# Altium integrated library Renesas Power Management Linear.IntLib: 125 symbols (part 3 of 4)
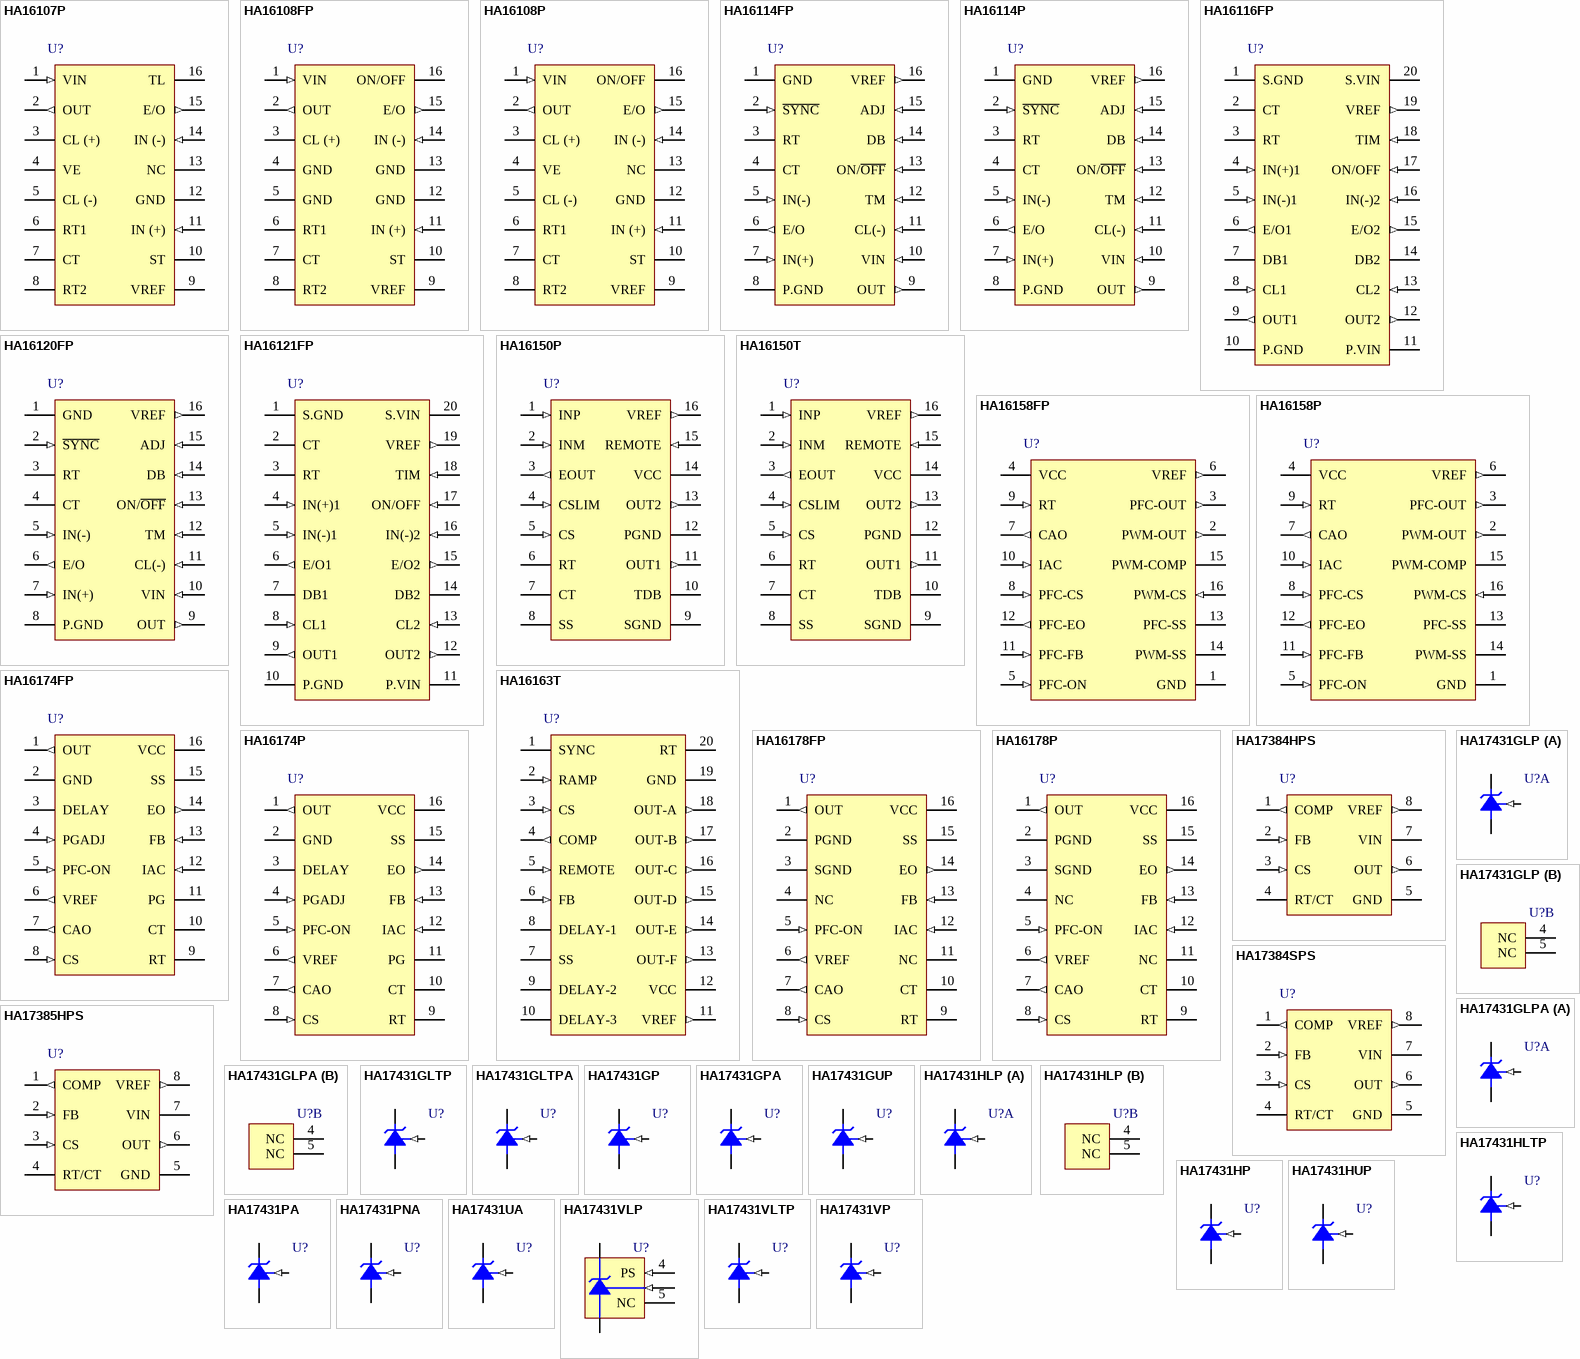
[diagram p5: symbols HA16107P to HA17431VP]

## HA17431VLP
designator U?
Temperature-Compensated Variable Shunt Regulator, Vref (2.5V ± 1%), VKA (16V), MPAK-5 Package, Industrial Grade; Published: 5-Feb-2010; DatasheetVersion: Rev.3.00, Apr-2007; PackageVersion: Jan-2005; PackageReference: PLSP0005ZB-A; Publisher: Altium Limited; PackageDescription: 5-Lead Plastic Small Outline Transistor, 0.95 mm Pitch, 2.8 mm Lead Span; Code_JEITA: SC-74A; Code_IPC: SOT23-5; ComponentLink1Description: Manufacturer Link; ComponentLink1URL: http://sg.renesas.com/fmwk.jsp?cnt=shunt_regulators_root.jsp&fp=/products/standard_ic/general_purpose_linear/power_management_linear/shunt_regulators/; ComponentLink2Description: Datasheet; ComponentLink2URL: http://documentation.renesas.com/eng/products/linear/rej03d0678_ha17431.pdf; ComponentLink3Description: Packaging Specification; ComponentLink3URL: http://sg.renesas.com/media/products/common_info/package/pdf/ic/code/plsp0005zb_a.pdf
footprint PLSP0005ZB-A_N (SOT23, 5-Leads, Body 2.95x1.6mm, Pitch 0.95mm, Lead Span 2.7mm, IPC Medium Density)
footprint PLSP0005ZB-A_L (SOT23, 5-Leads, Body 2.95x1.6mm, Pitch 0.95mm, Lead Span 2.7mm, IPC High Density)
footprint PLSP0005ZB-A_M (SOT23, 5-Leads, Body 2.95x1.6mm, Pitch 0.95mm, Lead Span 2.7mm, IPC Low Density)
pins: 1 REF (in), 2 K, 3 A, 4 PS (in), 5 NC

## HA17431VLTP
designator U?
Temperature-Compensated Variable Shunt Regulator, Vref (2.5V ± 1%), VKA (16V), MPAK Package, Industrial Grade; Published: 5-Feb-2010; DatasheetVersion: Rev.3.00, Apr-2007; PackageVersion: Sep-2005; PackageReference: MPAKV; Publisher: Altium Limited; PackageDescription: 3-Pin Plastic SOT-23 Package 0.95 mm Pitch, 2.8 mm Lead Span (PLSP0003ZB-A); Code_JEITA: SC-59A; ComponentLink1Description: Manufacturer Link; ComponentLink1URL: http://sg.renesas.com/fmwk.jsp?cnt=shunt_regulators_root.jsp&fp=/products/standard_ic/general_purpose_linear/power_management_linear/shunt_regulators/; ComponentLink2Description: Datasheet; ComponentLink2URL: http://documentation.renesas.com/eng/products/linear/rej03d0678_ha17431.pdf; ComponentLink3Description: Packaging Specification; ComponentLink3URL: http://sg.renesas.com/media/products/common_info/package/pdf/ic/code/plsp0003zb_a.pdf
footprint MPAKV_N (SOT346, 3-Leads, Body 2.9x1.5mm, Pitch 0.95mm, Lead Span 2.8mm, IPC Medium Density)
footprint MPAKV_L (SOT346, 3-Leads, Body 2.9x1.5mm, Pitch 0.95mm, Lead Span 2.8mm, IPC High Density)
footprint MPAKV_M (SOT346, 3-Leads, Body 2.9x1.5mm, Pitch 0.95mm, Lead Span 2.8mm, IPC Low Density)
pins: 1 REF (in), 2 K, 3 A

## HA17431VP
designator U?
Temperature-Compensated Variable Shunt Regulator, Vref (2.5V ± 1%), VKA (16V), TO-92 Package, Industrial Grade; Published: 5-Feb-2010; DatasheetVersion: Rev.3.00, Apr-2007; PackageVersion: Jan-2005; PackageReference: PRSS0003DA-A; Publisher: Altium Limited; PackageDescription: TO, Flat Index; 3 In-Line, Axial Leads; Body Dia. 4.8mm; Leads 0.55 x 0.5 mm (max); Code_JEITA: SC-43A; ComponentLink1Description: Manufacturer Link; ComponentLink1URL: http://sg.renesas.com/fmwk.jsp?cnt=shunt_regulators_root.jsp&fp=/products/standard_ic/general_purpose_linear/power_management_linear/shunt_regulators/; ComponentLink2Description: Datasheet; ComponentLink2URL: http://documentation.renesas.com/eng/products/linear/rej03d0678_ha17431.pdf; ComponentLink3Description: Packaging Specification; ComponentLink3URL: http://sg.renesas.com/media/products/common_info/package/pdf/ic/code/prss0003da_a.pdf
footprint PRSS0003DA-A (TO, Flat Index; 3 In-Line, Axial Leads; Body Dia. 4.8mm; Leads 0.55 x 0.5 mm (max))
pins: 1 REF (in), 2 A, 3 K

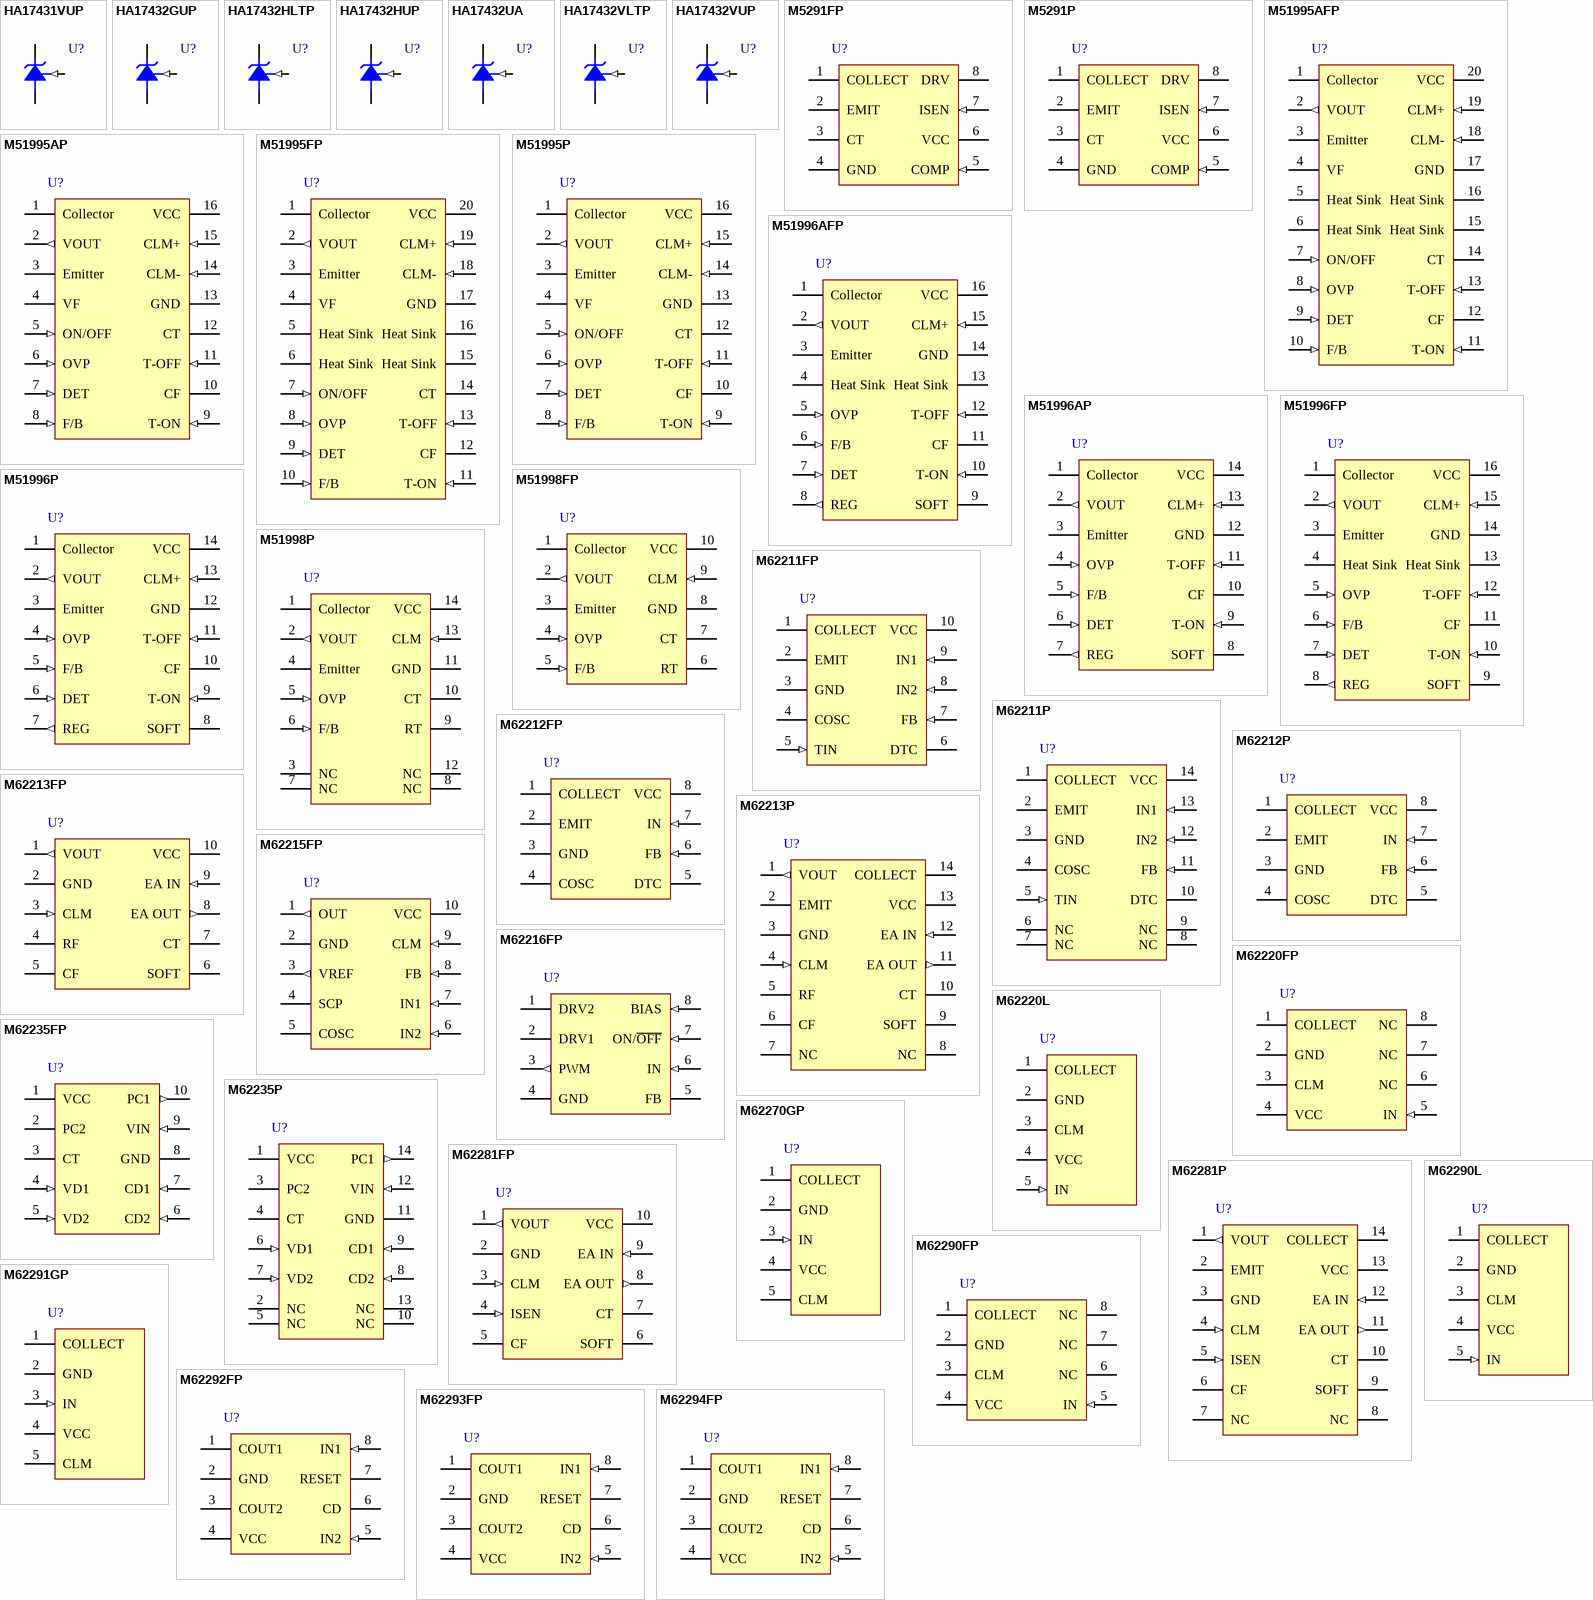
[diagram p2: symbols HA17431VUP to M62294FP]

## HA17431VUP
designator U?
Temperature-Compensated Variable Shunt Regulator, Vref (2.5V ± 1%), VKA (16V), UPAK Package, Industrial Grade; Published: 5-Feb-2010; DatasheetVersion: Rev.3.00, Apr-2007; PackageVersion: Jan-2005; PackageReference: PLZZ0004CA-A; Publisher: Altium Limited; PackageDescription: 3-Pin Plastic SOT-89 Package 1.5 mm Pitch, 4 mm Lead Span; Code_JEITA: SC-62; Code_IPC: SOT89; ComponentLink1Description: Manufacturer Link; ComponentLink1URL: http://sg.renesas.com/fmwk.jsp?cnt=shunt_regulators_root.jsp&fp=/products/standard_ic/general_purpose_linear/power_management_linear/shunt_regulators/; ComponentLink2Description: Datasheet; ComponentLink2URL: http://documentation.renesas.com/eng/products/linear/rej03d0678_ha17431.pdf; ComponentLink3Description: Packaging Specification; ComponentLink3URL: http://sg.renesas.com/media/products/common_info/package/pdf/ic/code/plzz0004ca_a.pdf
footprint PLZZ0004CA-A_N (SOT89, 3-Leads, Body 4.5x2.5 mm, Pitch 1.5mm, Lead Span 4mm, IPC Medium Density)
footprint PLZZ0004CA-A_L (SOT89, 3-Leads, Body 4.5x2.5 mm, Pitch 1.5mm, Lead Span 4mm, IPC High Density)
footprint PLZZ0004CA-A_M (SOT89, 3-Leads, Body 4.5x2.5 mm, Pitch 1.5mm, Lead Span 4mm, IPC Low Density)
pins: 1 REF (in), 2 A, 3 K

## HA17432GUP
designator U?
Temperature-Compensated Variable Shunt Regulator, Vref (2.5V ± 1%), VKA (40V), UPAK Package, Industrial Grade; Published: 5-Feb-2010; DatasheetVersion: Rev.1.00, Mar-2006; PackageVersion: Jan-2005; PackageReference: PLZZ0004CA-A; Publisher: Altium Limited; PackageDescription: 3-Pin Plastic SOT-89 Package 1.5 mm Pitch, 4 mm Lead Span; Code_JEITA: SC-62; Code_IPC: SOT89; ComponentLink1Description: Manufacturer Link; ComponentLink1URL: http://sg.renesas.com/fmwk.jsp?cnt=shunt_regulators_root.jsp&fp=/products/standard_ic/general_purpose_linear/power_management_linear/shunt_regulators/; ComponentLink2Description: Datasheet; ComponentLink2URL: http://documentation.renesas.com/eng/products/linear/rej03d0805_ha17431gds.pdf; ComponentLink3Description: Packaging Specification; ComponentLink3URL: http://sg.renesas.com/media/products/common_info/package/pdf/ic/code/plzz0004ca_a.pdf
footprint PLZZ0004CA-A_N (SOT89, 3-Leads, Body 4.5x2.5 mm, Pitch 1.5mm, Lead Span 4mm, IPC Medium Density)
footprint PLZZ0004CA-A_L (SOT89, 3-Leads, Body 4.5x2.5 mm, Pitch 1.5mm, Lead Span 4mm, IPC High Density)
footprint PLZZ0004CA-A_M (SOT89, 3-Leads, Body 4.5x2.5 mm, Pitch 1.5mm, Lead Span 4mm, IPC Low Density)
pins: 1 K, 2 A, 3 REF (in)

## HA17432HLTP
designator U?
Temperature-Compensated Variable Shunt Regulator, Vref (2.5V ± 1%), VKA (36V), MPAK Package, Industrial Grade; Published: 5-Feb-2010; DatasheetVersion: Rev.2.00, Jun-2005; PackageVersion: Sep-2005; PackageReference: MPAKV; Publisher: Altium Limited; PackageDescription: 3-Pin Plastic SOT-23 Package 0.95 mm Pitch, 2.8 mm Lead Span (PLSP0003ZB-A); Code_JEITA: SC-59A; ComponentLink1Description: Manufacturer Link; ComponentLink1URL: http://sg.renesas.com/fmwk.jsp?cnt=shunt_regulators_root.jsp&fp=/products/standard_ic/general_purpose_linear/power_management_linear/shunt_regulators/; ComponentLink2Description: Datasheet; ComponentLink2URL: http://documentation.renesas.com/eng/products/linear/rej03d0679_ha17431h.pdf; ComponentLink3Description: Packaging Specification; ComponentLink3URL: http://sg.renesas.com/media/products/common_info/package/pdf/ic/code/plsp0003zb_a.pdf
footprint MPAKV_N (SOT346, 3-Leads, Body 2.9x1.5mm, Pitch 0.95mm, Lead Span 2.8mm, IPC Medium Density)
footprint MPAKV_L (SOT346, 3-Leads, Body 2.9x1.5mm, Pitch 0.95mm, Lead Span 2.8mm, IPC High Density)
footprint MPAKV_M (SOT346, 3-Leads, Body 2.9x1.5mm, Pitch 0.95mm, Lead Span 2.8mm, IPC Low Density)
pins: 1 K, 2 REF (in), 3 A

## HA17432HUP
designator U?
Temperature-Compensated Variable Shunt Regulator, Vref (2.5V ± 1%), VKA (36V), UPAK Package, Industrial Grade; Published: 5-Feb-2010; DatasheetVersion: Rev.2.00, Jun-2005; PackageVersion: Jan-2005; PackageReference: PLZZ0004CA-A; Publisher: Altium Limited; PackageDescription: 3-Pin Plastic SOT-89 Package 1.5 mm Pitch, 4 mm Lead Span; Code_JEITA: SC-62; Code_IPC: SOT89; ComponentLink1Description: Manufacturer Link; ComponentLink1URL: http://sg.renesas.com/fmwk.jsp?cnt=shunt_regulators_root.jsp&fp=/products/standard_ic/general_purpose_linear/power_management_linear/shunt_regulators/; ComponentLink2Description: Datasheet; ComponentLink2URL: http://documentation.renesas.com/eng/products/linear/rej03d0679_ha17431h.pdf; ComponentLink3Description: Packaging Specification; ComponentLink3URL: http://sg.renesas.com/media/products/common_info/package/pdf/ic/code/plzz0004ca_a.pdf
footprint PLZZ0004CA-A_N (SOT89, 3-Leads, Body 4.5x2.5 mm, Pitch 1.5mm, Lead Span 4mm, IPC Medium Density)
footprint PLZZ0004CA-A_L (SOT89, 3-Leads, Body 4.5x2.5 mm, Pitch 1.5mm, Lead Span 4mm, IPC High Density)
footprint PLZZ0004CA-A_M (SOT89, 3-Leads, Body 4.5x2.5 mm, Pitch 1.5mm, Lead Span 4mm, IPC Low Density)
pins: 1 K, 2 A, 3 REF (in)

## HA17432UA
designator U?
Temperature-Compensated Variable Shunt Regulator, Vref (2.495V ± 2.2%), VKA (40V), UPAK Package, Commercial Grade; Published: 5-Feb-2010; DatasheetVersion: Rev.3.00, Apr-2007; PackageVersion: Jan-2005; PackageReference: PLZZ0004CA-A; Publisher: Altium Limited; PackageDescription: 3-Pin Plastic SOT-89 Package 1.5 mm Pitch, 4 mm Lead Span; Code_JEITA: SC-62; Code_IPC: SOT89; ComponentLink1Description: Manufacturer Link; ComponentLink1URL: http://sg.renesas.com/fmwk.jsp?cnt=shunt_regulators_root.jsp&fp=/products/standard_ic/general_purpose_linear/power_management_linear/shunt_regulators/; ComponentLink2Description: Datasheet; ComponentLink2URL: http://documentation.renesas.com/eng/products/linear/rej03d0678_ha17431.pdf; ComponentLink3Description: Packaging Specification; ComponentLink3URL: http://sg.renesas.com/media/products/common_info/package/pdf/ic/code/plzz0004ca_a.pdf
footprint PLZZ0004CA-A_N (SOT89, 3-Leads, Body 4.5x2.5 mm, Pitch 1.5mm, Lead Span 4mm, IPC Medium Density)
footprint PLZZ0004CA-A_L (SOT89, 3-Leads, Body 4.5x2.5 mm, Pitch 1.5mm, Lead Span 4mm, IPC High Density)
footprint PLZZ0004CA-A_M (SOT89, 3-Leads, Body 4.5x2.5 mm, Pitch 1.5mm, Lead Span 4mm, IPC Low Density)
pins: 1 K, 2 A, 3 REF (in)

## HA17432VLTP
designator U?
Temperature-Compensated Variable Shunt Regulator, Vref (2.5V ± 1%), VKA (16V), MPAK Package, Industrial Grade; Published: 5-Feb-2010; DatasheetVersion: Rev.3.00, Apr-2007; PackageVersion: Sep-2005; PackageReference: MPAKV; Publisher: Altium Limited; PackageDescription: 3-Pin Plastic SOT-23 Package 0.95 mm Pitch, 2.8 mm Lead Span (PLSP0003ZB-A); Code_JEITA: SC-59A; ComponentLink1Description: Manufacturer Link; ComponentLink1URL: http://sg.renesas.com/fmwk.jsp?cnt=shunt_regulators_root.jsp&fp=/products/standard_ic/general_purpose_linear/power_management_linear/shunt_regulators/; ComponentLink2Description: Datasheet; ComponentLink2URL: http://documentation.renesas.com/eng/products/linear/rej03d0678_ha17431.pdf; ComponentLink3Description: Packaging Specification; ComponentLink3URL: http://sg.renesas.com/media/products/common_info/package/pdf/ic/code/plsp0003zb_a.pdf
footprint MPAKV_N (SOT346, 3-Leads, Body 2.9x1.5mm, Pitch 0.95mm, Lead Span 2.8mm, IPC Medium Density)
footprint MPAKV_L (SOT346, 3-Leads, Body 2.9x1.5mm, Pitch 0.95mm, Lead Span 2.8mm, IPC High Density)
footprint MPAKV_M (SOT346, 3-Leads, Body 2.9x1.5mm, Pitch 0.95mm, Lead Span 2.8mm, IPC Low Density)
pins: 1 K, 2 REF (in), 3 A

## HA17432VUP
designator U?
Temperature-Compensated Variable Shunt Regulator, Vref (2.5V ± 1%), VKA (16V), UPAK Package, Industrial Grade; Published: 5-Feb-2010; DatasheetVersion: Rev.3.00, Apr-2007; PackageVersion: Jan-2005; PackageReference: PLZZ0004CA-A; Publisher: Altium Limited; PackageDescription: 3-Pin Plastic SOT-89 Package 1.5 mm Pitch, 4 mm Lead Span; Code_JEITA: SC-62; Code_IPC: SOT89; ComponentLink1Description: Manufacturer Link; ComponentLink1URL: http://sg.renesas.com/fmwk.jsp?cnt=shunt_regulators_root.jsp&fp=/products/standard_ic/general_purpose_linear/power_management_linear/shunt_regulators/; ComponentLink2Description: Datasheet; ComponentLink2URL: http://documentation.renesas.com/eng/products/linear/rej03d0678_ha17431.pdf; ComponentLink3Description: Packaging Specification; ComponentLink3URL: http://sg.renesas.com/media/products/common_info/package/pdf/ic/code/plzz0004ca_a.pdf
footprint PLZZ0004CA-A_N (SOT89, 3-Leads, Body 4.5x2.5 mm, Pitch 1.5mm, Lead Span 4mm, IPC Medium Density)
footprint PLZZ0004CA-A_L (SOT89, 3-Leads, Body 4.5x2.5 mm, Pitch 1.5mm, Lead Span 4mm, IPC High Density)
footprint PLZZ0004CA-A_M (SOT89, 3-Leads, Body 4.5x2.5 mm, Pitch 1.5mm, Lead Span 4mm, IPC Low Density)
pins: 1 K, 2 A, 3 REF (in)

## M5291FP
designator U?
Switching Regulator Control, DC/DC Converter, 100kHz, Vin (2.5 to 40V), 8-pin SOP; Published: 5-Feb-2010; DatasheetVersion: Rev.2.01, Nov-2007; PackageVersion: Sep-2005; PackageReference: PRSP0008DA-A; Publisher: Altium Limited; PackageDescription: 8-Pin Plastic Small Outline Package, 5.0 x 4.4 mm Body, 1.27 mm Pitch; Code_JEITA: P-SOP8-4.4x5-1.27; ComponentLink1Description: Manufacturer Link; ComponentLink1URL: http://sg.renesas.com/fmwk.jsp?cnt=dcdc_converter_root.jsp&fp=/products/standard_ic/general_purpose_linear/power_management_linear/dcdc_converter/; ComponentLink2Description: Datasheet; ComponentLink2URL: http://documentation.renesas.com/eng/products/linear/rej03d0841_m5291pds.pdf; ComponentLink3Description: Packaging Specification; ComponentLink3URL: http://sg.renesas.com/media/products/common_info/package/pdf/ic/code/prsp0008da_a.pdf
footprint PRSP0008DA-A_N (SOP, 8-Leads, Body 5x4.4mm, Pitch 1.27mm, IPC Medium Density)
footprint PRSP0008DA-A_L (SOP, 8-Leads, Body 5x4.4mm, Pitch 1.27mm, IPC High Density)
footprint PRSP0008DA-A_M (SOP, 8-Leads, Body 5x4.4mm, Pitch 1.27mm, IPC Low Density)
pins: 1 COLLECT "Switch Collector", 2 EMIT "Switch Emitter", 3 CT "Timing Capacitor", 4 GND (power) "Ground", 5 COMP (in) "Comparator Input", 6 VCC (power) "Vcc", 7 ISEN (in) "Peak Current Sense", 8 DRV "Driver"

## M5291P
designator U?
Switching Regulator Control, DC/DC Converter, 100kHz, Vin (2.5 to 40V), 8-pin DIP; Published: 5-Feb-2010; DatasheetVersion: Rev.2.01, Nov-2007; PackageVersion: Sep-2005; PackageReference: PRDP0008AA-A; Publisher: Altium Limited; PackageDescription: 8-Pin Plastic DIP, 8.9 x 6.3 mm Body, 7.62 mm Row Spacing, Pitch 2.54 mm; Code_JEITA: P-DIP8-6.3x8.84-2.54; ComponentLink1Description: Manufacturer Link; ComponentLink1URL: http://sg.renesas.com/fmwk.jsp?cnt=dcdc_converter_root.jsp&fp=/products/standard_ic/general_purpose_linear/power_management_linear/dcdc_converter/; ComponentLink2Description: Datasheet; ComponentLink2URL: http://documentation.renesas.com/eng/products/linear/rej03d0841_m5291pds.pdf; ComponentLink3Description: Packaging Specification; ComponentLink3URL: http://sg.renesas.com/media/products/common_info/package/pdf/ic/code/prdp0008aa_a.pdf
footprint PRDP0008AA-A (DIP, 8-Leads, Row Spacing 7.62mm, Pitch 2.54mm, Body 8.9x6.3mm)
pins: 1 COLLECT "Switch Collector", 2 EMIT "Switch Emitter", 3 CT "Timing Capacitor", 4 GND (power) "Ground", 5 COMP (in) "Comparator Input", 6 VCC (power) "Vcc", 7 ISEN (in) "Peak Current Sense", 8 DRV "Driver"

## M51995AFP
designator U?
Switching Regulator Control, 500kHz, Vin (10 to 35V), 20-pin SOP; Published: 5-Feb-2010; DatasheetVersion: Rev.3.00, Jun-2008; PackageVersion: Sep-2005; PackageReference: PRSP0020DA-A; Publisher: Altium Limited; PackageDescription: 20-Pin Plastic Small Outline Package, 12.6 x 5.3 x 1.8 mm Body, 1.27 mm Pitch; Code_JEITA: P-SOP20-5.3x12.6-1.27; ComponentLink1Description: Manufacturer Link; ComponentLink1URL: http://sg.renesas.com/fmwk.jsp?cnt=insulated_swps_root.jsp&fp=/products/standard_ic/general_purpose_linear/power_management_linear/insulated_sw_powersupply/; ComponentLink2Description: Datasheet; ComponentLink2URL: http://documentation.renesas.com/eng/products/linear/rej03d0835_m51995apds.pdf; ComponentLink3Description: Packaging Specification; ComponentLink3URL: http://sg.renesas.com/media/products/common_info/package/pdf/ic/code/prsp0020da_a.pdf
footprint PRSP0020DA-A_N (SOP, 20-Leads, Body 12.6x5.3mm, Pitch 1.27mm, IPC Medium Density)
footprint PRSP0020DA-A_L (SOP, 20-Leads, Body 12.6x5.3mm, Pitch 1.27mm, IPC High Density)
footprint PRSP0020DA-A_M (SOP, 20-Leads, Body 12.6x5.3mm, Pitch 1.27mm, IPC Low Density)
pins: 1 Collector, 2 VOUT (out), 3 Emitter, 4 VF, 5 Heat Sink (power), 6 Heat Sink (power), 7 ON/OFF (in), 8 OVP (in), 9 DET (in), 10 F/B (in), 11 T-ON (in), 12 CF, 13 T-OFF (in), 14 CT, 15 Heat Sink (power), 16 Heat Sink (power), 17 GND (power), 18 CLM- (in), 19 CLM+ (in), 20 VCC (power)

## M51995AP
designator U?
Switching Regulator Control, 500kHz, Vin (10 to 35V), 16-pin DIP; Published: 5-Feb-2010; DatasheetVersion: Rev.3.00, Jun-2008; PackageVersion: Sep-2005; PackageReference: PRDP0016AA-A; Publisher: Altium Limited; PackageDescription: 16-Pin Plastic DIP, 19 x 6.3 mm Body, 7.62 mm Row Spacing, Pitch 2.54 mm; Code_JEITA: P-DIP16-6.3x19-2.54; ComponentLink1Description: Manufacturer Link; ComponentLink1URL: http://sg.renesas.com/fmwk.jsp?cnt=insulated_swps_root.jsp&fp=/products/standard_ic/general_purpose_linear/power_management_linear/insulated_sw_powersupply/; ComponentLink2Description: Datasheet; ComponentLink2URL: http://documentation.renesas.com/eng/products/linear/rej03d0835_m51995apds.pdf; ComponentLink3Description: Packaging Specification; ComponentLink3URL: http://sg.renesas.com/media/products/common_info/package/pdf/ic/code/prdp0016aa_a.pdf
footprint PRDP0016AA-A (DIP, 16-Leads, Row Spacing 7.62mm, Pitch 2.54mm, Body 19x6.3mm)
pins: 1 Collector, 2 VOUT (out), 3 Emitter, 4 VF, 5 ON/OFF (in), 6 OVP (in), 7 DET (in), 8 F/B (in), 9 T-ON (in), 10 CF, 11 T-OFF (in), 12 CT, 13 GND (power), 14 CLM- (in), 15 CLM+ (in), 16 VCC (power)

## M51995FP
designator U?
Switching Regulator Control, 500kHz, Vin (10 to 35V), 20-pin SOP; Published: 5-Feb-2010; DatasheetVersion: Rev.3.00, Jun-2008; PackageVersion: Sep-2005; PackageReference: PRSP0020DA-A; Publisher: Altium Limited; PackageDescription: 20-Pin Plastic Small Outline Package, 12.6 x 5.3 x 1.8 mm Body, 1.27 mm Pitch; Code_JEITA: P-SOP20-5.3x12.6-1.27; ComponentLink1Description: Manufacturer Link; ComponentLink1URL: http://sg.renesas.com/fmwk.jsp?cnt=insulated_swps_root.jsp&fp=/products/standard_ic/general_purpose_linear/power_management_linear/insulated_sw_powersupply/; ComponentLink2Description: Datasheet; ComponentLink2URL: http://documentation.renesas.com/eng/products/linear/rej03d0835_m51995apds.pdf; ComponentLink3Description: Packaging Specification; ComponentLink3URL: http://sg.renesas.com/media/products/common_info/package/pdf/ic/code/prsp0020da_a.pdf
footprint PRSP0020DA-A_N (SOP, 20-Leads, Body 12.6x5.3mm, Pitch 1.27mm, IPC Medium Density)
footprint PRSP0020DA-A_L (SOP, 20-Leads, Body 12.6x5.3mm, Pitch 1.27mm, IPC High Density)
footprint PRSP0020DA-A_M (SOP, 20-Leads, Body 12.6x5.3mm, Pitch 1.27mm, IPC Low Density)
pins: 1 Collector, 2 VOUT (out), 3 Emitter, 4 VF, 5 Heat Sink (power), 6 Heat Sink (power), 7 ON/OFF (in), 8 OVP (in), 9 DET (in), 10 F/B (in), 11 T-ON (in), 12 CF, 13 T-OFF (in), 14 CT, 15 Heat Sink (power), 16 Heat Sink (power), 17 GND (power), 18 CLM- (in), 19 CLM+ (in), 20 VCC (power)

## M51995P
designator U?
Switching Regulator Control, 500kHz, Vin (10 to 35V), 16-pin DIP; Published: 5-Feb-2010; DatasheetVersion: Rev.3.00, Jun-2008; PackageVersion: Sep-2005; PackageReference: PRDP0016AA-A; Publisher: Altium Limited; PackageDescription: 16-Pin Plastic DIP, 19 x 6.3 mm Body, 7.62 mm Row Spacing, Pitch 2.54 mm; Code_JEITA: P-DIP16-6.3x19-2.54; ComponentLink1Description: Manufacturer Link; ComponentLink1URL: http://sg.renesas.com/fmwk.jsp?cnt=insulated_swps_root.jsp&fp=/products/standard_ic/general_purpose_linear/power_management_linear/insulated_sw_powersupply/; ComponentLink2Description: Datasheet; ComponentLink2URL: http://documentation.renesas.com/eng/products/linear/rej03d0835_m51995apds.pdf; ComponentLink3Description: Packaging Specification; ComponentLink3URL: http://sg.renesas.com/media/products/common_info/package/pdf/ic/code/prdp0016aa_a.pdf
footprint PRDP0016AA-A (DIP, 16-Leads, Row Spacing 7.62mm, Pitch 2.54mm, Body 19x6.3mm)
pins: 1 Collector, 2 VOUT (out), 3 Emitter, 4 VF, 5 ON/OFF (in), 6 OVP (in), 7 DET (in), 8 F/B (in), 9 T-ON (in), 10 CF, 11 T-OFF (in), 12 CT, 13 GND (power), 14 CLM- (in), 15 CLM+ (in), 16 VCC (power)

## M51996AFP
designator U?
Switching Regulator Control, 500kHz, Vin (10 to 30V), 16-pin SOP; Published: 5-Feb-2010; DatasheetVersion: Rev.2.01, Nov-2007; PackageVersion: Sep-2005; PackageReference: PRSP0016DE-A; Publisher: Altium Limited; PackageDescription: 16-Pin Plastic Small Outline Package 1.27 mm Pitch; Code_JEITA: P-SOP16-5.3x10.1-1.27; ComponentLink1Description: Manufacturer Link; ComponentLink1URL: http://sg.renesas.com/fmwk.jsp?cnt=insulated_swps_root.jsp&fp=/products/standard_ic/general_purpose_linear/power_management_linear/insulated_sw_powersupply/; ComponentLink2Description: Datasheet; ComponentLink2URL: http://documentation.renesas.com/eng/products/linear/rej03d0836_m51996apds.pdf; ComponentLink3Description: Packaging Specification; ComponentLink3URL: http://sg.renesas.com/media/products/common_info/package/pdf/ic/code/prsp0016de_a.pdf
footprint PRSP0016DE-A_N (SOP, 16-Leads, Body 10.1x5.3mm, Pitch 1.27mm, IPC Medium Density)
footprint PRSP0016DE-A_L (SOP, 16-Leads, Body 10.1x5.3mm, Pitch 1.27mm, IPC High Density)
footprint PRSP0016DE-A_M (SOP, 16-Leads, Body 10.1x5.3mm, Pitch 1.27mm, IPC Low Density)
pins: 1 Collector, 2 VOUT (out), 3 Emitter, 4 Heat Sink (power), 5 OVP (in), 6 F/B (in), 7 DET (in), 8 REG (out), 9 SOFT, 10 T-ON (in), 11 CF, 12 T-OFF (in), 13 Heat Sink (power), 14 GND (power), 15 CLM+ (in), 16 VCC (power)

## M51996AP
designator U?
Switching Regulator Control, 500kHz, Vin (10 to 30V), 14-pin DIP; Published: 5-Feb-2010; DatasheetVersion: Rev.2.01, Nov-2007; PackageVersion: 2008; PackageReference: PRDP0014AA-A; Publisher: Altium Limited; PackageDescription: 14-Pin Plastic DIP, 19 x 6.3 mm Body, 7.62 mm Row Spacing, Pitch 2.54 mm; Code_JEITA: P-DIP14-6.3x19-2.54; ComponentLink1Description: Manufacturer Link; ComponentLink1URL: http://sg.renesas.com/fmwk.jsp?cnt=insulated_swps_root.jsp&fp=/products/standard_ic/general_purpose_linear/power_management_linear/insulated_sw_powersupply/; ComponentLink2Description: Datasheet; ComponentLink2URL: http://documentation.renesas.com/eng/products/linear/rej03d0836_m51996apds.pdf; ComponentLink3Description: Packaging Specification; ComponentLink3URL: http://sg.renesas.com/media/products/common_info/package/pdf/ic/code/prdp0014aa_a.pdf
footprint PRDP0014AA-A (DIP, 14-Leads, Row Spacing 7.62mm, Pitch 2.54mm, Body 19x6.3mm)
pins: 1 Collector, 2 VOUT (out), 3 Emitter, 4 OVP (in), 5 F/B (in), 6 DET (in), 7 REG (out), 8 SOFT, 9 T-ON (in), 10 CF, 11 T-OFF (in), 12 GND (power), 13 CLM+ (in), 14 VCC (power)

## M51996FP
designator U?
Switching Regulator Control, 500kHz, Vin (10 to 30V), 16-pin SOP; Published: 5-Feb-2010; DatasheetVersion: Rev.2.01, Nov-2007; PackageVersion: Sep-2005; PackageReference: PRSP0016DE-A; Publisher: Altium Limited; PackageDescription: 16-Pin Plastic Small Outline Package 1.27 mm Pitch; Code_JEITA: P-SOP16-5.3x10.1-1.27; ComponentLink1Description: Manufacturer Link; ComponentLink1URL: http://sg.renesas.com/fmwk.jsp?cnt=insulated_swps_root.jsp&fp=/products/standard_ic/general_purpose_linear/power_management_linear/insulated_sw_powersupply/; ComponentLink2Description: Datasheet; ComponentLink2URL: http://documentation.renesas.com/eng/products/linear/rej03d0836_m51996apds.pdf; ComponentLink3Description: Packaging Specification; ComponentLink3URL: http://sg.renesas.com/media/products/common_info/package/pdf/ic/code/prsp0016de_a.pdf
footprint PRSP0016DE-A_N (SOP, 16-Leads, Body 10.1x5.3mm, Pitch 1.27mm, IPC Medium Density)
footprint PRSP0016DE-A_L (SOP, 16-Leads, Body 10.1x5.3mm, Pitch 1.27mm, IPC High Density)
footprint PRSP0016DE-A_M (SOP, 16-Leads, Body 10.1x5.3mm, Pitch 1.27mm, IPC Low Density)
pins: 1 Collector, 2 VOUT (out), 3 Emitter, 4 Heat Sink (power), 5 OVP (in), 6 F/B (in), 7 DET (in), 8 REG (out), 9 SOFT, 10 T-ON (in), 11 CF, 12 T-OFF (in), 13 Heat Sink (power), 14 GND (power), 15 CLM+ (in), 16 VCC (power)

## M51996P
designator U?
Switching Regulator Control, 500kHz, Vin (10 to 30V), 14-pin DIP; Published: 5-Feb-2010; DatasheetVersion: Rev.2.01, Nov-2007; PackageVersion: 2008; PackageReference: PRDP0014AA-A; Publisher: Altium Limited; PackageDescription: 14-Pin Plastic DIP, 19 x 6.3 mm Body, 7.62 mm Row Spacing, Pitch 2.54 mm; Code_JEITA: P-DIP14-6.3x19-2.54; ComponentLink1Description: Manufacturer Link; ComponentLink1URL: http://sg.renesas.com/fmwk.jsp?cnt=insulated_swps_root.jsp&fp=/products/standard_ic/general_purpose_linear/power_management_linear/insulated_sw_powersupply/; ComponentLink2Description: Datasheet; ComponentLink2URL: http://documentation.renesas.com/eng/products/linear/rej03d0836_m51996apds.pdf; ComponentLink3Description: Packaging Specification; ComponentLink3URL: http://sg.renesas.com/media/products/common_info/package/pdf/ic/code/prdp0014aa_a.pdf
footprint PRDP0014AA-A (DIP, 14-Leads, Row Spacing 7.62mm, Pitch 2.54mm, Body 19x6.3mm)
pins: 1 Collector, 2 VOUT (out), 3 Emitter, 4 OVP (in), 5 F/B (in), 6 DET (in), 7 REG (out), 8 SOFT, 9 T-ON (in), 10 CF, 11 T-OFF (in), 12 GND (power), 13 CLM+ (in), 14 VCC (power)

## M51998FP
designator U?
Switching Regulator Control, 500kHz, Vin (10 to 35V), 10-pin SOP; Published: 5-Feb-2010; DatasheetVersion: Rev.2.00, Jun-2006; PackageVersion: Sep-2005; PackageReference: PRSP0010DB-A; Publisher: Altium Limited; PackageDescription: 10-Pin Plastic Small Outline Package, 6.8 x 5.7 mm Body, 1.27 mm Pitch; Code_JEITA: P-SOP10-5.7x6.8-1.27; ComponentLink1Description: Manufacturer Link; ComponentLink1URL: http://sg.renesas.com/fmwk.jsp?cnt=insulated_swps_root.jsp&fp=/products/standard_ic/general_purpose_linear/power_management_linear/insulated_sw_powersupply/; ComponentLink2Description: Datasheet; ComponentLink2URL: http://documentation.renesas.com/eng/products/linear/rej03d0837_m51998pds.pdf; ComponentLink3Description: Packaging Specification; ComponentLink3URL: http://sg.renesas.com/media/products/common_info/package/pdf/ic/code/prsp0010db_a.pdf
footprint PRSP0010DB-A_N (SOP, 10-Leads, Body 6.8x5.7mm, Pitch 1.27mm, IPC Medium Density)
footprint PRSP0010DB-A_L (SOP, 10-Leads, Body 6.8x5.7mm, Pitch 1.27mm, IPC High Density)
footprint PRSP0010DB-A_M (SOP, 10-Leads, Body 6.8x5.7mm, Pitch 1.27mm, IPC Low Density)
pins: 1 Collector, 2 VOUT (out), 3 Emitter, 4 OVP (in), 5 F/B (in), 6 RT, 7 CT, 8 GND (power), 9 CLM (in), 10 VCC (power)

## M51998P
designator U?
Switching Regulator Control, 500kHz, Vin (10 to 35V), 14-pin DIP; Published: 5-Feb-2010; DatasheetVersion: Rev.2.00, Jun-2006; PackageVersion: 2008; PackageReference: PRDP0014AA-A; Publisher: Altium Limited; PackageDescription: 14-Pin Plastic DIP, 19 x 6.3 mm Body, 7.62 mm Row Spacing, Pitch 2.54 mm; Code_JEITA: P-DIP14-6.3x19-2.54; ComponentLink1Description: Manufacturer Link; ComponentLink1URL: http://sg.renesas.com/fmwk.jsp?cnt=insulated_swps_root.jsp&fp=/products/standard_ic/general_purpose_linear/power_management_linear/insulated_sw_powersupply/; ComponentLink2Description: Datasheet; ComponentLink2URL: http://documentation.renesas.com/eng/products/linear/rej03d0837_m51998pds.pdf; ComponentLink3Description: Packaging Specification; ComponentLink3URL: http://sg.renesas.com/media/products/common_info/package/pdf/ic/code/prdp0014aa_a.pdf
footprint PRDP0014AA-A (DIP, 14-Leads, Row Spacing 7.62mm, Pitch 2.54mm, Body 19x6.3mm)
pins: 1 Collector, 2 VOUT (out), 3 NC, 4 Emitter, 5 OVP (in), 6 F/B (in), 7 NC, 8 NC, 9 RT, 10 CT, 11 GND (power), 12 NC, 13 CLM (in), 14 VCC (power)

## M62211FP
designator U?
General Purpose Multi-Function DC/DC Converter, 500kHz, Vin (2.5 to 35V), 10-pin SOP; Published: 5-Feb-2010; DatasheetVersion: Rev.2.01, Nov-2007; PackageVersion: Sep-2005; PackageReference: PRSP0010DB-A; Publisher: Altium Limited; PackageDescription: 10-Pin Plastic Small Outline Package, 6.8 x 5.7 mm Body, 1.27 mm Pitch; Code_JEITA: P-SOP10-5.7x6.8-1.27; ComponentLink1Description: Manufacturer Link; ComponentLink1URL: http://sg.renesas.com/fmwk.jsp?cnt=dcdc_converter_root.jsp&fp=/products/standard_ic/general_purpose_linear/power_management_linear/dcdc_converter/; ComponentLink2Description: Datasheet; ComponentLink2URL: http://documentation.renesas.com/eng/products/linear/rej03d0842_m62211pds.pdf; ComponentLink3Description: Packaging Specification; ComponentLink3URL: http://sg.renesas.com/media/products/common_info/package/pdf/ic/code/prsp0010db_a.pdf
footprint PRSP0010DB-A_N (SOP, 10-Leads, Body 6.8x5.7mm, Pitch 1.27mm, IPC Medium Density)
footprint PRSP0010DB-A_L (SOP, 10-Leads, Body 6.8x5.7mm, Pitch 1.27mm, IPC High Density)
footprint PRSP0010DB-A_M (SOP, 10-Leads, Body 6.8x5.7mm, Pitch 1.27mm, IPC Low Density)
pins: 1 COLLECT, 2 EMIT, 3 GND (power), 4 COSC, 5 TIN (in), 6 DTC, 7 FB (in), 8 IN2 (in), 9 IN1 (in), 10 VCC (power)

## M62211P
designator U?
General Purpose Multi-Function DC/DC Converter, 500kHz, Vin (2.5 to 35V), 14-pin DIP; Published: 5-Feb-2010; DatasheetVersion: Rev.2.01, Nov-2007; PackageVersion: 2008; PackageReference: PRDP0014AA-A; Publisher: Altium Limited; PackageDescription: 14-Pin Plastic DIP, 19 x 6.3 mm Body, 7.62 mm Row Spacing, Pitch 2.54 mm; Code_JEITA: P-DIP14-6.3x19-2.54; ComponentLink1Description: Manufacturer Link; ComponentLink1URL: http://sg.renesas.com/fmwk.jsp?cnt=dcdc_converter_root.jsp&fp=/products/standard_ic/general_purpose_linear/power_management_linear/dcdc_converter/; ComponentLink2Description: Datasheet; ComponentLink2URL: http://documentation.renesas.com/eng/products/linear/rej03d0842_m62211pds.pdf; ComponentLink3Description: Packaging Specification; ComponentLink3URL: http://sg.renesas.com/media/products/common_info/package/pdf/ic/code/prdp0014aa_a.pdf
footprint PRDP0014AA-A (DIP, 14-Leads, Row Spacing 7.62mm, Pitch 2.54mm, Body 19x6.3mm)
pins: 1 COLLECT, 2 EMIT, 3 GND (power), 4 COSC, 5 TIN (in), 6 NC, 7 NC, 8 NC, 9 NC, 10 DTC, 11 FB (in), 12 IN2 (in), 13 IN1 (in), 14 VCC (power)

## M62212FP
designator U?
General Purpose DC/DC Converter, 300kHz, Vin (2.5 to 18V), 8-pin SOP; Published: 5-Feb-2010; DatasheetVersion: Rev.2.00, Jun-2006; PackageVersion: Sep-2005; PackageReference: PRSP0008DA-A; Publisher: Altium Limited; PackageDescription: 8-Pin Plastic Small Outline Package, 5.0 x 4.4 mm Body, 1.27 mm Pitch; Code_JEITA: P-SOP8-4.4x5-1.27; ComponentLink1Description: Manufacturer Link; ComponentLink1URL: http://sg.renesas.com/fmwk.jsp?cnt=dcdc_converter_root.jsp&fp=/products/standard_ic/general_purpose_linear/power_management_linear/dcdc_converter/; ComponentLink2Description: Datasheet; ComponentLink2URL: http://documentation.renesas.com/eng/products/linear/rej03d0843_m62212pds.pdf; ComponentLink3Description: Packaging Specification; ComponentLink3URL: http://sg.renesas.com/media/products/common_info/package/pdf/ic/code/prsp0008da_a.pdf
footprint PRSP0008DA-A_N (SOP, 8-Leads, Body 5x4.4mm, Pitch 1.27mm, IPC Medium Density)
footprint PRSP0008DA-A_L (SOP, 8-Leads, Body 5x4.4mm, Pitch 1.27mm, IPC High Density)
footprint PRSP0008DA-A_M (SOP, 8-Leads, Body 5x4.4mm, Pitch 1.27mm, IPC Low Density)
pins: 1 COLLECT, 2 EMIT, 3 GND (power), 4 COSC, 5 DTC, 6 FB (in), 7 IN (in), 8 VCC (power)

## M62212P
designator U?
General Purpose DC/DC Converter, 300kHz, Vin (2.5 to 18V), 8-pin DIP; Published: 5-Feb-2010; DatasheetVersion: Rev.2.00, Jun-2006; PackageVersion: Sep-2005; PackageReference: PRDP0008AA-A; Publisher: Altium Limited; PackageDescription: 8-Pin Plastic DIP, 8.9 x 6.3 mm Body, 7.62 mm Row Spacing, Pitch 2.54 mm; Code_JEITA: P-DIP8-6.3x8.84-2.54; ComponentLink1Description: Manufacturer Link; ComponentLink1URL: http://sg.renesas.com/fmwk.jsp?cnt=dcdc_converter_root.jsp&fp=/products/standard_ic/general_purpose_linear/power_management_linear/dcdc_converter/; ComponentLink2Description: Datasheet; ComponentLink2URL: http://documentation.renesas.com/eng/products/linear/rej03d0843_m62212pds.pdf; ComponentLink3Description: Packaging Specification; ComponentLink3URL: http://sg.renesas.com/media/products/common_info/package/pdf/ic/code/prdp0008aa_a.pdf
footprint PRDP0008AA-A (DIP, 8-Leads, Row Spacing 7.62mm, Pitch 2.54mm, Body 8.9x6.3mm)
pins: 1 COLLECT, 2 EMIT, 3 GND (power), 4 COSC, 5 DTC, 6 FB (in), 7 IN (in), 8 VCC (power)

## M62213FP
designator U?
General Purpose High Speed PWM Controller, 700kHz, Vin (8.3 to 35V), 10-pin SOP; Published: 5-Feb-2010; DatasheetVersion: Rev.3.00, Sep-2007; PackageVersion: Sep-2005; PackageReference: PRSP0010DB-A; Publisher: Altium Limited; PackageDescription: 10-Pin Plastic Small Outline Package, 6.8 x 5.7 mm Body, 1.27 mm Pitch; Code_JEITA: P-SOP10-5.7x6.8-1.27; ComponentLink1Description: Manufacturer Link; ComponentLink1URL: http://sg.renesas.com/fmwk.jsp?cnt=insulated_swps_root.jsp&fp=/products/standard_ic/general_purpose_linear/power_management_linear/insulated_sw_powersupply/; ComponentLink2Description: Datasheet; ComponentLink2URL: http://documentation.renesas.com/eng/products/linear/rej03d0838_m62213pds.pdf; ComponentLink3Description: Packaging Specification; ComponentLink3URL: http://sg.renesas.com/media/products/common_info/package/pdf/ic/code/prsp0010db_a.pdf
footprint PRSP0010DB-A_N (SOP, 10-Leads, Body 6.8x5.7mm, Pitch 1.27mm, IPC Medium Density)
footprint PRSP0010DB-A_L (SOP, 10-Leads, Body 6.8x5.7mm, Pitch 1.27mm, IPC High Density)
footprint PRSP0010DB-A_M (SOP, 10-Leads, Body 6.8x5.7mm, Pitch 1.27mm, IPC Low Density)
pins: 1 VOUT (out), 2 GND (power), 3 CLM (in), 4 RF, 5 CF, 6 SOFT, 7 CT, 8 EA OUT (out), 9 EA IN (in), 10 VCC (power)

## M62213P
designator U?
General Purpose High Speed PWM Controller, 700kHz, Vin (8.3 to 35V), 14-pin DIP; Published: 5-Feb-2010; DatasheetVersion: Rev.3.00, Sep-2007; PackageVersion: 2008; PackageReference: PRDP0014AA-A; Publisher: Altium Limited; PackageDescription: 14-Pin Plastic DIP, 19 x 6.3 mm Body, 7.62 mm Row Spacing, Pitch 2.54 mm; Code_JEITA: P-DIP14-6.3x19-2.54; ComponentLink1Description: Manufacturer Link; ComponentLink1URL: http://sg.renesas.com/fmwk.jsp?cnt=insulated_swps_root.jsp&fp=/products/standard_ic/general_purpose_linear/power_management_linear/insulated_sw_powersupply/; ComponentLink2Description: Datasheet; ComponentLink2URL: http://documentation.renesas.com/eng/products/linear/rej03d0838_m62213pds.pdf; ComponentLink3Description: Packaging Specification; ComponentLink3URL: http://sg.renesas.com/media/products/common_info/package/pdf/ic/code/prdp0014aa_a.pdf
footprint PRDP0014AA-A (DIP, 14-Leads, Row Spacing 7.62mm, Pitch 2.54mm, Body 19x6.3mm)
pins: 1 VOUT (out), 2 EMIT, 3 GND (power), 4 CLM (in), 5 RF, 6 CF, 7 NC, 8 NC, 9 SOFT, 10 CT, 11 EA OUT (out), 12 EA IN (in), 13 VCC (power), 14 COLLECT

## M62215FP
designator U?
General Purpose Multi-Function DC/DC Converter, 500kHz, Vin (8.6 to 25V), 10-pin SOP; Published: 5-Feb-2010; DatasheetVersion: Rev.2.01, Nov-2007; PackageVersion: Sep-2005; PackageReference: PRSP0010DB-A; Publisher: Altium Limited; PackageDescription: 10-Pin Plastic Small Outline Package, 6.8 x 5.7 mm Body, 1.27 mm Pitch; Code_JEITA: P-SOP10-5.7x6.8-1.27; ComponentLink1Description: Manufacturer Link; ComponentLink1URL: http://sg.renesas.com/fmwk.jsp?cnt=dcdc_converter_root.jsp&fp=/products/standard_ic/general_purpose_linear/power_management_linear/dcdc_converter/; ComponentLink2Description: Datasheet; ComponentLink2URL: http://documentation.renesas.com/eng/products/linear/rej03d0844_m62215fpds.pdf; ComponentLink3Description: Packaging Specification; ComponentLink3URL: http://sg.renesas.com/media/products/common_info/package/pdf/ic/code/prsp0010db_a.pdf
footprint PRSP0010DB-A_N (SOP, 10-Leads, Body 6.8x5.7mm, Pitch 1.27mm, IPC Medium Density)
footprint PRSP0010DB-A_L (SOP, 10-Leads, Body 6.8x5.7mm, Pitch 1.27mm, IPC High Density)
footprint PRSP0010DB-A_M (SOP, 10-Leads, Body 6.8x5.7mm, Pitch 1.27mm, IPC Low Density)
pins: 1 OUT (out), 2 GND (power), 3 VREF (out), 4 SCP, 5 COSC, 6 IN2 (in), 7 IN1 (in), 8 FB (in), 9 CLM (in), 10 VCC (power)

## M62216FP
designator U?
Low Voltage Operation Step-Up DC/DC Converter, 300kHz, Vin (0.9 to 15.5V), 8-pin SOP; Published: 5-Feb-2010; DatasheetVersion: Rev.2.01, Nov-2007; PackageVersion: Sep-2005; PackageReference: PRSP0008DA-A; Publisher: Altium Limited; PackageDescription: 8-Pin Plastic Small Outline Package, 5.0 x 4.4 mm Body, 1.27 mm Pitch; Code_JEITA: P-SOP8-4.4x5-1.27; ComponentLink1Description: Manufacturer Link; ComponentLink1URL: http://sg.renesas.com/fmwk.jsp?cnt=dcdc_converter_root.jsp&fp=/products/standard_ic/general_purpose_linear/power_management_linear/dcdc_converter/; ComponentLink2Description: Datasheet; ComponentLink2URL: http://documentation.renesas.com/eng/products/linear/rej03d0845_m62216fpds.pdf; ComponentLink3Description: Packaging Specification; ComponentLink3URL: http://sg.renesas.com/media/products/common_info/package/pdf/ic/code/prsp0008da_a.pdf
footprint PRSP0008DA-A_N (SOP, 8-Leads, Body 5x4.4mm, Pitch 1.27mm, IPC Medium Density)
footprint PRSP0008DA-A_L (SOP, 8-Leads, Body 5x4.4mm, Pitch 1.27mm, IPC High Density)
footprint PRSP0008DA-A_M (SOP, 8-Leads, Body 5x4.4mm, Pitch 1.27mm, IPC Low Density)
pins: 1 DRV2, 2 DRV1, 3 PWM (out), 4 GND (power), 5 FB, 6 IN (in), 7 ON/~{OFF} (in), 8 BIAS (in)

## M62220FP
designator U?
3.3 V Fixed Output Voltage DC/DC Converter, 110kHz (Fixed), Vin (4 to 15V), 8-pin SOP; Published: 5-Feb-2010; DatasheetVersion: Rev.3.00, Jun-2007; PackageVersion: Sep-2005; PackageReference: PRSP0008DA-A; Publisher: Altium Limited; PackageDescription: 8-Pin Plastic Small Outline Package, 5.0 x 4.4 mm Body, 1.27 mm Pitch; Code_JEITA: P-SOP8-4.4x5-1.27; ComponentLink1Description: Manufacturer Link; ComponentLink1URL: http://sg.renesas.com/fmwk.jsp?cnt=dcdc_converter_root.jsp&fp=/products/standard_ic/general_purpose_linear/power_management_linear/dcdc_converter/; ComponentLink2Description: Datasheet; ComponentLink2URL: http://documentation.renesas.com/eng/products/linear/rej03d0846_m62220lds.pdf; ComponentLink3Description: Packaging Specification; ComponentLink3URL: http://sg.renesas.com/media/products/common_info/package/pdf/ic/code/prsp0008da_a.pdf
footprint PRSP0008DA-A_N (SOP, 8-Leads, Body 5x4.4mm, Pitch 1.27mm, IPC Medium Density)
footprint PRSP0008DA-A_L (SOP, 8-Leads, Body 5x4.4mm, Pitch 1.27mm, IPC High Density)
footprint PRSP0008DA-A_M (SOP, 8-Leads, Body 5x4.4mm, Pitch 1.27mm, IPC Low Density)
pins: 1 COLLECT (oc), 2 GND (power), 3 CLM, 4 VCC (power), 5 IN (in), 6 NC, 7 NC, 8 NC

## M62220L
designator U?
3.3 V Fixed Output Voltage DC/DC Converter, 110kHz (Fixed), Vin (4 to 15V), 5-pin SIP; Published: 5-Feb-2010; DatasheetVersion: Rev.3.00, Jun-2007; PackageVersion: Jun-2006; PackageReference: PRSS0005AA-A; Publisher: Altium Limited; PackageDescription: 5-Pin Plastic SIP, 11.7 x 4 x 1.97 mm Body, 2.54 mm Pitch; Code_JEITA: P-SIP5-4x11.7-2.54; ComponentLink1Description: Manufacturer Link; ComponentLink1URL: http://sg.renesas.com/fmwk.jsp?cnt=dcdc_converter_root.jsp&fp=/products/standard_ic/general_purpose_linear/power_management_linear/dcdc_converter/; ComponentLink2Description: Datasheet; ComponentLink2URL: http://documentation.renesas.com/eng/products/linear/rej03d0846_m62220lds.pdf; ComponentLink3Description: Packaging Specification; ComponentLink3URL: http://sg.renesas.com/media/products/common_info/package/pdf/ic/code/prss0005aa_a.pdf
footprint PRSS0005AA-A (SIP; 5 Leads; Body 11.7 x 2 mm (LxW typ); Pitch 2.54 mm)
pins: 1 COLLECT (oc), 2 GND (power), 3 CLM, 4 VCC (power), 5 IN (in)

## M62235FP
designator U?
Switching Power Supply Secondary Side Control, Vin (5 to 24V), 10-pin SOP; Published: 5-Feb-2010; DatasheetVersion: Rev.2.01, Nov-2007; PackageVersion: Sep-2005; PackageReference: PRSP0010DB-A; Publisher: Altium Limited; PackageDescription: 10-Pin Plastic Small Outline Package, 6.8 x 5.7 mm Body, 1.27 mm Pitch; Code_JEITA: P-SOP10-5.7x6.8-1.27; ComponentLink1Description: Manufacturer Link; ComponentLink1URL: http://sg.renesas.com/fmwk.jsp?cnt=insulated_swps_root.jsp&fp=/products/standard_ic/general_purpose_linear/power_management_linear/insulated_sw_powersupply/; ComponentLink2Description: Datasheet; ComponentLink2URL: http://documentation.renesas.com/eng/products/linear/rej03d0839_m62235pds.pdf; ComponentLink3Description: Packaging Specification; ComponentLink3URL: http://sg.renesas.com/media/products/common_info/package/pdf/ic/code/prsp0010db_a.pdf
footprint PRSP0010DB-A_N (SOP, 10-Leads, Body 6.8x5.7mm, Pitch 1.27mm, IPC Medium Density)
footprint PRSP0010DB-A_L (SOP, 10-Leads, Body 6.8x5.7mm, Pitch 1.27mm, IPC High Density)
footprint PRSP0010DB-A_M (SOP, 10-Leads, Body 6.8x5.7mm, Pitch 1.27mm, IPC Low Density)
pins: 1 VCC (power), 2 PC2 (oc), 3 CT, 4 VD1 (in), 5 VD2 (in), 6 CD2 (in), 7 CD1 (in), 8 GND (power), 9 VIN (in), 10 PC1 (out)

## M62235P
designator U?
Switching Power Supply Secondary Side Control, Vin (5 to 24V), 14-pin DIP; Published: 5-Feb-2010; DatasheetVersion: Rev.2.01, Nov-2007; PackageVersion: 2008; PackageReference: PRDP0014AA-A; Publisher: Altium Limited; PackageDescription: 14-Pin Plastic DIP, 19 x 6.3 mm Body, 7.62 mm Row Spacing, Pitch 2.54 mm; Code_JEITA: P-DIP14-6.3x19-2.54; ComponentLink1Description: Manufacturer Link; ComponentLink1URL: http://sg.renesas.com/fmwk.jsp?cnt=insulated_swps_root.jsp&fp=/products/standard_ic/general_purpose_linear/power_management_linear/insulated_sw_powersupply/; ComponentLink2Description: Datasheet; ComponentLink2URL: http://documentation.renesas.com/eng/products/linear/rej03d0839_m62235pds.pdf; ComponentLink3Description: Packaging Specification; ComponentLink3URL: http://sg.renesas.com/media/products/common_info/package/pdf/ic/code/prdp0014aa_a.pdf
footprint PRDP0014AA-A (DIP, 14-Leads, Row Spacing 7.62mm, Pitch 2.54mm, Body 19x6.3mm)
pins: 1 VCC (power), 2 NC, 3 PC2 (oc), 4 CT, 5 NC, 6 VD1 (in), 7 VD2 (in), 8 CD2 (in), 9 CD1 (in), 10 NC, 11 GND (power), 12 VIN (in), 13 NC, 14 PC1 (out)

## M62270GP
designator U?
3V System Fixed Output Voltage DC/DC Converter, 110kHz (Fixed), Vin (4 to 15V), 5-pin SOT-23; ComponentAvailability: Not Recommended for New Design; Published: 5-Feb-2010; DatasheetVersion: Rev.2.01, Nov-2007; PackageVersion: Sep-2005; PackageReference: PLSP0005ZA-A; Publisher: Altium Limited; PackageDescription: 5-Lead Plastic Small Outline Transistor, 0.95 mm Pitch, 2.8 mm Lead Span; Code_JEITA: SC-74A; Code_IPC: SOT23-5; ComponentLink1Description: Manufacturer Link; ComponentLink1URL: http://sg.renesas.com/fmwk.jsp?cnt=dcdc_converter_root.jsp&fp=/products/standard_ic/general_purpose_linear/power_management_linear/dcdc_converter/; ComponentLink2Description: Datasheet; ComponentLink2URL: http://documentation.renesas.com/eng/products/linear/rej03d0849_m6227xgpds.pdf; ComponentLink3Description: Packaging Specification; ComponentLink3URL: http://sg.renesas.com/media/products/common_info/package/pdf/ic/code/plsp0005za_a.pdf
footprint PLSP0005ZA-A_N (SOT23, 5-Leads, Body 2.9x1.7mm, Pitch 0.95mm, Lead Span 2.8mm, IPC Medium Density)
footprint PLSP0005ZA-A_L (SOT23, 5-Leads, Body 2.9x1.7mm, Pitch 0.95mm, Lead Span 2.8mm, IPC High Density)
footprint PLSP0005ZA-A_M (SOT23, 5-Leads, Body 2.9x1.7mm, Pitch 0.95mm, Lead Span 2.8mm, IPC Low Density)
pins: 1 COLLECT (oc), 2 GND (power), 3 IN (in), 4 VCC (power), 5 CLM

## M62281FP
designator U?
High Speed Current Mode PWM Controller, 700kHz, Vin (8.3 to 35V), 10-pin SOP; Published: 5-Feb-2010; DatasheetVersion: Rev.2.01, Nov-2007; PackageVersion: Sep-2005; PackageReference: PRSP0010DB-A; Publisher: Altium Limited; PackageDescription: 10-Pin Plastic Small Outline Package, 6.8 x 5.7 mm Body, 1.27 mm Pitch; Code_JEITA: P-SOP10-5.7x6.8-1.27; ComponentLink1Description: Manufacturer Link; ComponentLink1URL: http://sg.renesas.com/fmwk.jsp?cnt=insulated_swps_root.jsp&fp=/products/standard_ic/general_purpose_linear/power_management_linear/insulated_sw_powersupply/; ComponentLink2Description: Datasheet; ComponentLink2URL: http://documentation.renesas.com/eng/products/linear/rej03d0840_m62281pds.pdf; ComponentLink3Description: Packaging Specification; ComponentLink3URL: http://sg.renesas.com/media/products/common_info/package/pdf/ic/code/prsp0010db_a.pdf
footprint PRSP0010DB-A_N (SOP, 10-Leads, Body 6.8x5.7mm, Pitch 1.27mm, IPC Medium Density)
footprint PRSP0010DB-A_L (SOP, 10-Leads, Body 6.8x5.7mm, Pitch 1.27mm, IPC High Density)
footprint PRSP0010DB-A_M (SOP, 10-Leads, Body 6.8x5.7mm, Pitch 1.27mm, IPC Low Density)
pins: 1 VOUT (out), 2 GND (power), 3 CLM (in), 4 ISEN (in), 5 CF, 6 SOFT, 7 CT, 8 EA OUT (out), 9 EA IN (in), 10 VCC (power)

## M62281P
designator U?
High Speed Current Mode PWM Controller, 700kHz, Vin (8.3 to 35V), 14-pin DIP; Published: 5-Feb-2010; DatasheetVersion: Rev.2.01, Nov-2007; PackageVersion: 2008; PackageReference: PRDP0014AA-A; Publisher: Altium Limited; PackageDescription: 14-Pin Plastic DIP, 19 x 6.3 mm Body, 7.62 mm Row Spacing, Pitch 2.54 mm; Code_JEITA: P-DIP14-6.3x19-2.54; ComponentLink1Description: Manufacturer Link; ComponentLink1URL: http://sg.renesas.com/fmwk.jsp?cnt=insulated_swps_root.jsp&fp=/products/standard_ic/general_purpose_linear/power_management_linear/insulated_sw_powersupply/; ComponentLink2Description: Datasheet; ComponentLink2URL: http://documentation.renesas.com/eng/products/linear/rej03d0840_m62281pds.pdf; ComponentLink3Description: Packaging Specification; ComponentLink3URL: http://sg.renesas.com/media/products/common_info/package/pdf/ic/code/prdp0014aa_a.pdf
footprint PRDP0014AA-A (DIP, 14-Leads, Row Spacing 7.62mm, Pitch 2.54mm, Body 19x6.3mm)
pins: 1 VOUT (out), 2 EMIT, 3 GND (power), 4 CLM (in), 5 ISEN (in), 6 CF, 7 NC, 8 NC, 9 SOFT, 10 CT, 11 EA OUT (out), 12 EA IN (in), 13 VCC (power), 14 COLLECT

## M62290FP
designator U?
5V Fixed Output Voltage DC/DC Converter, 120kHz (Fixed), Vin (6 to 15V), 8-pin SOP; Published: 5-Feb-2010; DatasheetVersion: Rev.3.00, Jun-2007; PackageVersion: Sep-2005; PackageReference: PRSP0008DA-A; Publisher: Altium Limited; PackageDescription: 8-Pin Plastic Small Outline Package, 5.0 x 4.4 mm Body, 1.27 mm Pitch; Code_JEITA: P-SOP8-4.4x5-1.27; ComponentLink1Description: Manufacturer Link; ComponentLink1URL: http://sg.renesas.com/fmwk.jsp?cnt=dcdc_converter_root.jsp&fp=/products/standard_ic/general_purpose_linear/power_management_linear/dcdc_converter/; ComponentLink2Description: Datasheet; ComponentLink2URL: http://documentation.renesas.com/eng/products/linear/rej03d0850_m62290lds.pdf; ComponentLink3Description: Packaging Specification; ComponentLink3URL: http://sg.renesas.com/media/products/common_info/package/pdf/ic/code/prsp0008da_a.pdf
footprint PRSP0008DA-A_N (SOP, 8-Leads, Body 5x4.4mm, Pitch 1.27mm, IPC Medium Density)
footprint PRSP0008DA-A_L (SOP, 8-Leads, Body 5x4.4mm, Pitch 1.27mm, IPC High Density)
footprint PRSP0008DA-A_M (SOP, 8-Leads, Body 5x4.4mm, Pitch 1.27mm, IPC Low Density)
pins: 1 COLLECT (oc), 2 GND (power), 3 CLM, 4 VCC (power), 5 IN (in), 6 NC, 7 NC, 8 NC

## M62290L
designator U?
5V Fixed Output Voltage DC/DC Converter, 120kHz (Fixed), Vin (6 to 15V), 5-pin SIP; Published: 5-Feb-2010; DatasheetVersion: Rev.3.00, Jun-2007; PackageVersion: Jun-2006; PackageReference: PRSS0005AA-A; Publisher: Altium Limited; PackageDescription: 5-Pin Plastic SIP, 11.7 x 4 x 1.97 mm Body, 2.54 mm Pitch; Code_JEITA: P-SIP5-4x11.7-2.54; ComponentLink1Description: Manufacturer Link; ComponentLink1URL: http://sg.renesas.com/fmwk.jsp?cnt=dcdc_converter_root.jsp&fp=/products/standard_ic/general_purpose_linear/power_management_linear/dcdc_converter/; ComponentLink2Description: Datasheet; ComponentLink2URL: http://documentation.renesas.com/eng/products/linear/rej03d0850_m62290lds.pdf; ComponentLink3Description: Packaging Specification; ComponentLink3URL: http://sg.renesas.com/media/products/common_info/package/pdf/ic/code/prss0005aa_a.pdf
footprint PRSS0005AA-A (SIP; 5 Leads; Body 11.7 x 2 mm (LxW typ); Pitch 2.54 mm)
pins: 1 COLLECT (oc), 2 GND (power), 3 CLM, 4 VCC (power), 5 IN (in)

## M62291GP
designator U?
5V System Fixed Output Voltage DC/DC Converter, 120kHz (Fixed), Vin (6 to 15V), 5-pin SOT-23; Published: 5-Feb-2010; DatasheetVersion: Rev.2.01, Nov-2007; PackageVersion: Sep-2005; PackageReference: PLSP0005ZA-A; Publisher: Altium Limited; PackageDescription: 5-Lead Plastic Small Outline Transistor, 0.95 mm Pitch, 2.8 mm Lead Span; Code_JEITA: SC-74A; Code_IPC: SOT23-5; ComponentLink1Description: Manufacturer Link; ComponentLink1URL: http://sg.renesas.com/fmwk.jsp?cnt=dcdc_converter_root.jsp&fp=/products/standard_ic/general_purpose_linear/power_management_linear/dcdc_converter/; ComponentLink2Description: Datasheet; ComponentLink2URL: http://documentation.renesas.com/eng/products/linear/rej03d0851_m62291gpds.pdf; ComponentLink3Description: Packaging Specification; ComponentLink3URL: http://sg.renesas.com/media/products/common_info/package/pdf/ic/code/plsp0005za_a.pdf
footprint PLSP0005ZA-A_N (SOT23, 5-Leads, Body 2.9x1.7mm, Pitch 0.95mm, Lead Span 2.8mm, IPC Medium Density)
footprint PLSP0005ZA-A_L (SOT23, 5-Leads, Body 2.9x1.7mm, Pitch 0.95mm, Lead Span 2.8mm, IPC High Density)
footprint PLSP0005ZA-A_M (SOT23, 5-Leads, Body 2.9x1.7mm, Pitch 0.95mm, Lead Span 2.8mm, IPC Low Density)
pins: 1 COLLECT (oc), 2 GND (power), 3 IN (in), 4 VCC (power), 5 CLM